# EAGLE library part CA3082 (library transistor-npn)
TRANSISTOR ARRAY general purpose, high current common collector
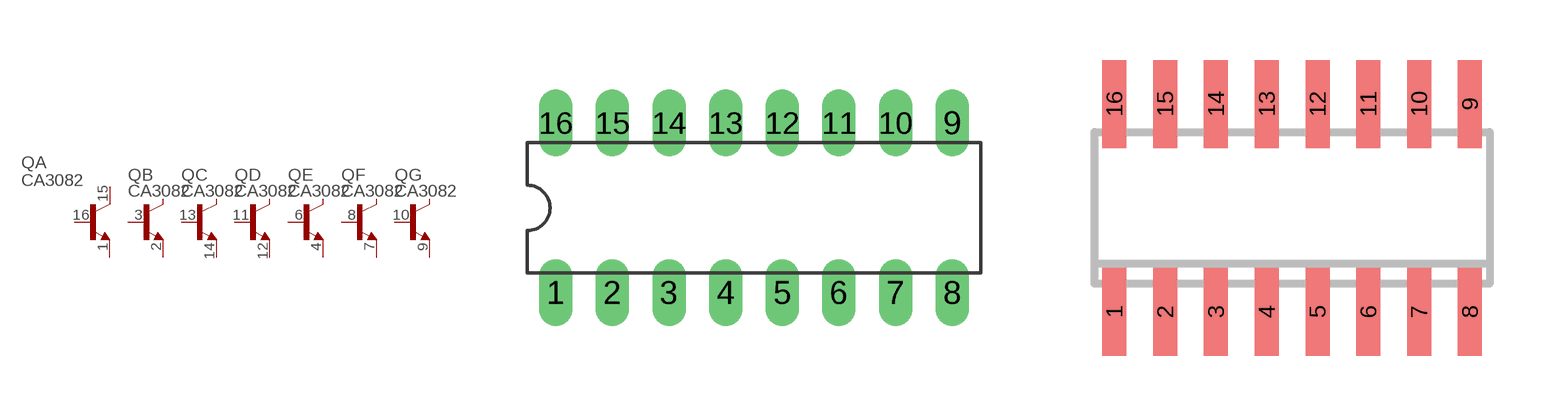
[diagram p0: symbol with the pads of DIL16; footprints DIL16, SO16]

Designator prefix Q; gates B=NPN-E C=NPN-E D=NPN-E E=NPN-E F=NPN-E G=NPN-E A=NPN-PAD

## CA3082  [DIL16]
1  A:E  pas
2  B:E  pas
3  B:B  pas
4  E:E  pas
6  E:B  pas
7  F:E  pas
8  F:B  pas
9  G:E  pas
10  G:B  pas
11  D:B  pas
12  D:E  pas
13  C:B  pas
14  C:E  pas
15  A:C  pas
16  A:B  pas

## CA3082M  [SO16]
Pads as for DIL16

## Footprint DIL16 (pad centres in mm)
Dual In Line Package
drill 0.813 pad 1.5 long: 1 -8.89,-3.81; 2 -6.35,-3.81; 3 -3.81,-3.81; 4 -1.27,-3.81; 5 1.27,-3.81; 6 3.81,-3.81; 7 6.35,-3.81; 8 8.89,-3.81; 9 8.89,3.81; 10 6.35,3.81; 11 3.81,3.81; 12 1.27,3.81; 13 -1.27,3.81; 14 -3.81,3.81; 15 -6.35,3.81; 16 -8.89,3.81

## Footprint SO16 (pad centres in mm)
SMALL OUTLINE INTEGRATED CIRCUIT body 3.9 mm/JEDEC MS-012AC
smd 0.6 x 2.2: 1 -4.445,-2.6; 2 -3.175,-2.6; 3 -1.905,-2.6; 4 -0.635,-2.6; 5 0.635,-2.6; 6 1.905,-2.6; 7 3.175,-2.6; 8 4.445,-2.6; 9 4.445,2.6; 10 3.175,2.6; 11 1.905,2.6; 12 0.635,2.6; 13 -0.635,2.6; 14 -1.905,2.6; 15 -3.175,2.6; 16 -4.445,2.6